# EAGLE library part GMSTBA9 (library con-phoenix-508)
PHOENIX
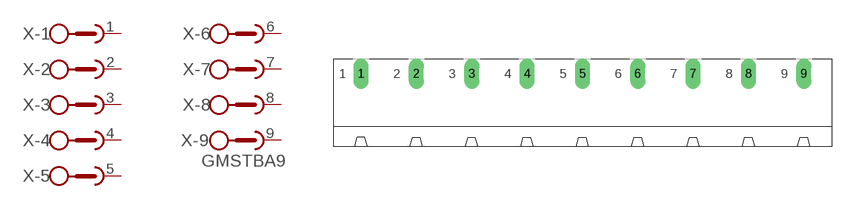
[diagram p3: symbol with the pads of GMSTBA9; footprint GMSTBA9]

Designator prefix X; gates -1=SKB -2=SKB -3=SKB -4=SKB -5=SKB -6=SKB -7=SKB -8=SKB -9=SKBV

## GMSTBA9  [GMSTBA9]
1  -1:1  pas
2  -2:1  pas
3  -3:1  pas
4  -4:1  pas
5  -5:1  pas
6  -6:1  pas
7  -7:1  pas
8  -8:1  pas
9  -9:1  pas

## Footprint GMSTBA9 (pad centres in mm)
PHOENIX
drill 1.397 long: 1 -30.48,5.08; 2 -22.86,5.08; 3 -15.24,5.08; 4 -7.62,5.08; 5 0,5.08; 6 7.62,5.08; 7 15.24,5.08; 8 22.86,5.08; 9 30.48,5.08